# EAGLE library part DREH2X6 (library Schalter_V12)
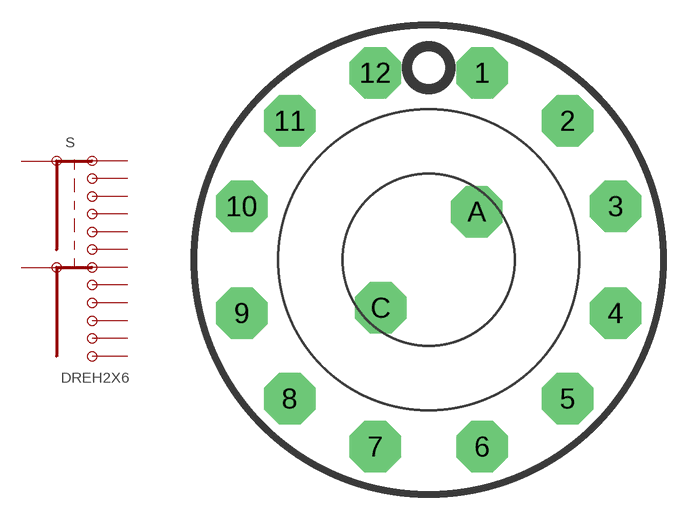
[diagram p1: symbol with the pads of DREH2X6; footprint DREH2X6]

Designator prefix S

## DREH2X6  [DREH2X6]
1  1
2  2
3  3
4  4
5  5
6  6
7  7
8  8
9  9
10  10
11  11
12  12
A  A
C  C

## Footprint DREH2X6 (pad centres in mm)
drill 0.813 pad 3.048 octagon: 1 3.175,11.113; 2 8.255,8.255; 3 11.113,3.175; 4 11.113,-3.175; 5 8.255,-8.255; 6 3.175,-11.113; 7 -3.175,-11.113; 8 -8.255,-8.255; 9 -11.113,-3.175; 10 -11.113,3.175; 11 -8.255,8.255; 12 -3.175,11.113; A 2.857,2.857; C -2.857,-2.857